# Altium footprint library ISO.PcbLib: 48 footprints (part 2 of 3)
Each footprint in its own frame and in the unit in brackets; x right, y up, seen from the top. Pads: shape width x height; smd on the part's side, far side on the other; paste and mask are expansions set on the pad; w line width, h text height; cw(c..) or ccw(c..) is an arc to the next point about the centre after c.
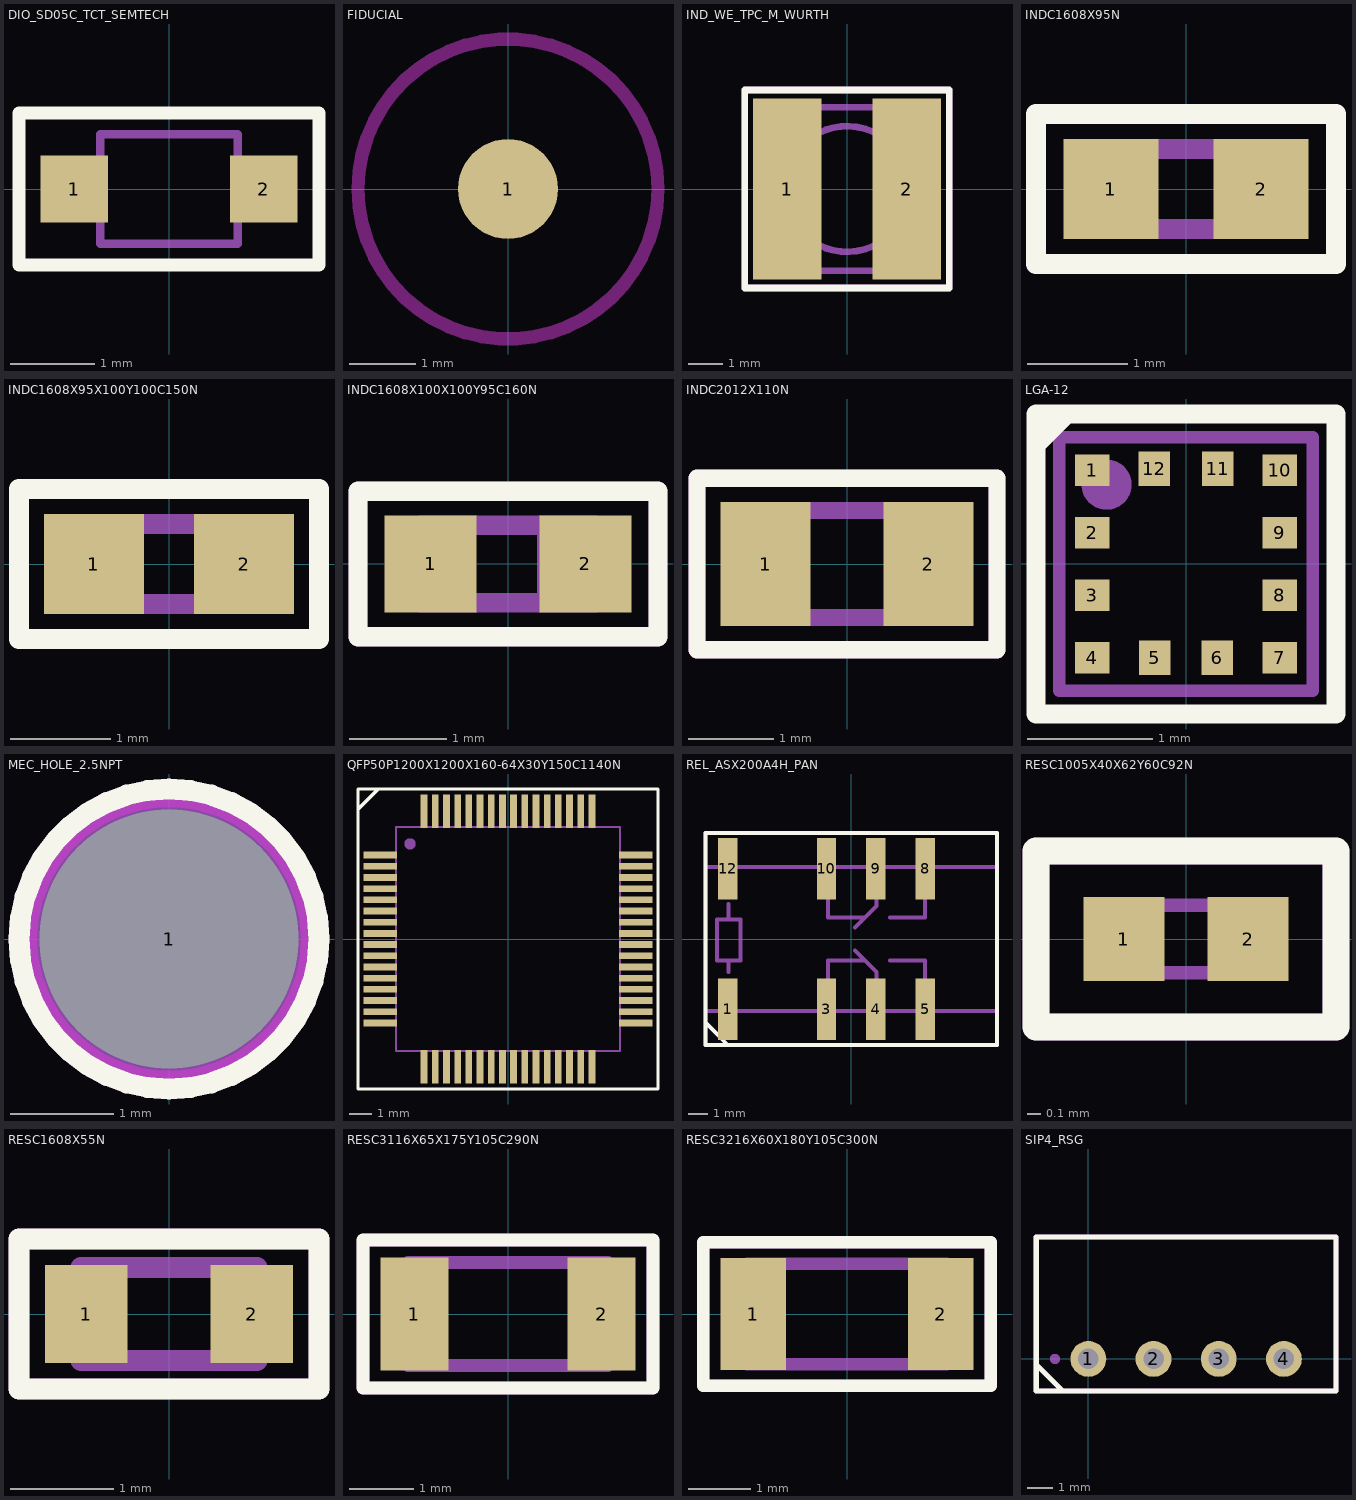
[diagram p1: the footprints below, top view; thin cyan lines are the x and y axes]

## DIO_SD05C_TCT_SEMTECH [mm] "Diode, Body; 1.8mm L(max) X 1.4mm(max) W X 1.1 mm (max) H"
height 1.1
pads (2):
  rect 0.8x0.8 smd: 1(-1.125,0) 2(1.125,0)
Top Overlay:
  lines w0.15: -1.778,-0.9 -1.778,0.9 1.778,0.9 1.778,-0.9 -1.778,-0.9
Mechanical 11:
  text ".Designator" at -0.813,-0.65 h1
Mechanical 13:
  lines w0.1: -0.813,-0.2 -1.35,-0.2 -1.35,0.2 -0.813,0.2 ; 0.813,-0.2 1.35,-0.2 1.35,0.2 0.813,0.2 ; -0.813,-0.65 -0.813,0.65 0.813,0.65 0.813,-0.65 -0.813,-0.65
Mechanical 15:
  lines w0.05: -1.775,-0.9 -1.775,0.9 1.775,0.9 1.775,-0.9 -1.775,-0.9
3D body: height 1.1, standoff 0, extent -1.774,-0.899 1.774,0.899

## FIDUCIAL [mm] "Standaard Fiducial 1.5mm"
height 0.1
pads (1):
  round 1.5 smd mask+1.125: 1(0,0)
Keep-Out Layer:
  circle w0.2: c0,0 r2.25
  circle w0.2: c0,0 r2.25

## IND_WE_TPC_M_WURTH [mm] "POWER-CHOKE WE-TPC-M"
height 4.5
pads (2):
  rect 2x5.3 smd paste+0: 1(-1.75,0) 2(1.75,0)
Top Overlay:
  lines w0.2: -3,-2.9 3,-2.9 3,2.9 -3,2.9 -3,-2.9
Mechanical 11:
  text ".Designator" at 4.75,2.25 h0.6
Mechanical 13:
  circle w0.4: c-1.7,1.65 r0.15
  circle w0.2: c0,0 r1.844
  lines w0.2: -2.4,-2.4 2.4,-2.4 2.4,2.4 -2.4,2.4 -2.4,-2.4
Mechanical 15:
  lines w0.2: -3,-2.9 3,-2.9 3,2.9 -3,2.9 -3,-2.9
3D body: height 4.5, standoff 0, extent -2.999,-2.899 2.999,2.899

## INDC1608X95N [mm] "Chip Inductor, 2-Leads, Body 1.6x0.8mm, IPC Medium Density"
height 0.95
pads (2):
  rect 0.95x1 smd: 1(-0.75,0) 2(0.75,0)
Top Overlay:
  lines w0.2: -1.5,-0.75 -1.5,0.75 1.5,0.75 1.5,-0.75 -1.5,-0.75
Mechanical 11:
  text ".designator" at -1.5,0.85 h0.6
Mechanical 13:
  lines w0.2: -0.45,-0.4 -0.45,0.4 ; 0.45,-0.4 0.45,0.4 ; -0.8,-0.4 -0.8,0.4 0.8,0.4 0.8,-0.4 -0.8,-0.4
Mechanical 15:
  lines w0.2: -1.5,-0.75 1.5,-0.75 1.5,0.75 -1.5,0.75 -1.5,-0.75
3D body: height 0.95, standoff 0, extent -1.499,-0.749 1.499,0.749

## INDC1608X95X100Y100C150N [mm] "Chip Inductor, 2-Leads, Body 1.6x0.8mm, IPC Medium Density"
height 0.95
pads (2):
  rect 1x1 smd: 1(-0.75,0) 2(0.75,0)
Top Overlay:
  lines w0.2: -1.5,-0.75 1.5,-0.75 1.5,0.75 -1.5,0.75 -1.5,-0.75
Mechanical 11:
  text ".Designator" at -1.475,1.05 h0.6
Mechanical 13:
  lines w0.2: -0.45,-0.4 -0.45,0.4 ; 0.45,-0.4 0.45,0.4 ; -0.8,-0.4 0.8,-0.4 0.8,0.4 -0.8,0.4 -0.8,-0.4
Mechanical 15:
  lines w0.2: -1.5,-0.75 -1.5,0.75 1.5,0.75 1.5,-0.75 -1.5,-0.75
3D body: height 0.95, standoff 0, extent -1.499,-0.749 1.499,0.749

## INDC1608X100X100Y95C160N [mm] "Chip Inductor, 2-Leads, Body 1.6x0.8mm, IPC Medium Density"
height 1
pads (2):
  rect 0.95x1 smd: 1(-0.8,0) 2(0.8,0)
Top Overlay:
  lines w0.2: -1.55,-0.75 -1.55,0.75 1.55,0.75 1.55,-0.75 -1.55,-0.75
Mechanical 11:
  text ".designator" at 3.25,0.25 h0.6
Mechanical 13:
  lines w0.2: -0.5,-0.4 -0.5,0.4 ; 0.4,-0.4 0.4,0.4 ; -0.9,-0.4 0.9,-0.4 0.9,0.4 -0.9,0.4 -0.9,-0.4
Mechanical 15:
  lines w0.2: -1.55,-0.75 1.55,-0.75 1.55,0.75 -1.55,0.75 -1.55,-0.75
3D body: height 1, standoff 0, extent -1.549,-0.749 1.549,0.749

## INDC2012X110N [mm] "Chip Inductor, 2-Leads, Body 2.0x1.3mm, IPC Medium Density"
height 1.1
pads (2):
  rect 1.05x1.45 smd: 1(-0.95,0) 2(0.95,0)
Top Overlay:
  lines w0.2: -1.75,-1 1.75,-1 1.75,1 -1.75,1 -1.75,-1
Mechanical 11:
  text ".designator" at -1.75,1.125 h0.6
Mechanical 13:
  circle w0.3: c-0.65,-0.2 r0.05
  lines w0.2: -1,-0.625 -1,0.625 1,0.625 1,-0.625 -1,-0.625
Mechanical 15:
  lines w0.2: -1.75,-1 -1.75,1 1.75,1 1.75,-1 -1.75,-1
3D body: height 1.1, standoff 0, extent -1.749,-0.999 1.749,0.999

## LGA-12 [mm] "BareBoard PCB"
pads (12):
  rect 0.275x0.25 smd: 1(-0.75,0.75) 2(-0.75,0.25) 3(-0.75,-0.25) 4(-0.75,-0.75) 7(0.75,-0.75) 8(0.75,-0.25) 9(0.75,0.25) 10(0.75,0.75)
  rect 0.25x0.275 smd: 5(-0.25,-0.75) 6(0.25,-0.75) 11(0.254,0.762) 12(-0.254,0.762)
Top Overlay:
  lines w0.15: -1.2,0.95 -0.95,1.2 ; -1.2,-1.2 1.2,-1.2 1.2,1.2 -1.2,1.2 -1.2,-1.2
Mechanical 11:
  text ".designator" at -0.85,-0.35 h0.8
Mechanical 13:
  circle w0.2: c-0.635,0.635 r0.1
  lines w0.1: -1.016,-1.016 1.016,-1.016 1.016,1.016 -1.016,1.016 -1.016,-1.016
Mechanical 15:
  lines w0.05: -1.2,-1.2 1.2,-1.2 1.2,1.2 -1.2,1.2 -1.2,-1.2

## MEC_HOLE_2.5NPT [mm] "Mechanical hole 2.5mmNPT"
height 0.1
pads (1):
  round 2.1 hole 2.5 unplated mask+0: 1(0,0)
Top Overlay:
  circle w0.2: c0,0 r1.45
Keep-Out Layer:
  circle w0.15: c0,0 r1.35
Mechanical 5:
  circle w0.1: c0,0 r1.25
Mechanical 13:
  circle w0.2: c0,0 r1.25
Mechanical 14:
  circle w0.2: c0,0 r1.35
Mechanical 15:
  circle w0.2: c0,0 r1.45
3D body: height 0.1, standoff 0, extent -1.449,-1.449 1.449,1.449

## QFP50P1200X1200X160-64X30Y150C1140N [mm] "TQFP, 64-Leads, Body 12 x 12 mm (max), Pitch 0.50mm, IPC Medium Density"
height 1.6
pads (64):
  rect 1.5x0.3 smd: 1(-5.7,3.75) 2(-5.7,3.25) 3(-5.7,2.75) 4(-5.7,2.25) 5(-5.7,1.75) 6(-5.7,1.25) 7(-5.7,0.75) 8(-5.7,0.25) 9(-5.7,-0.25) 10(-5.7,-0.75) 11(-5.7,-1.25) 12(-5.7,-1.75) 13(-5.7,-2.25) 14(-5.7,-2.75) 15(-5.7,-3.25) 16(-5.7,-3.75) 33(5.7,-3.75) 34(5.7,-3.25) 35(5.7,-2.75) 36(5.7,-2.25) 37(5.7,-1.75) 38(5.7,-1.25) 39(5.7,-0.75) 40(5.7,-0.25) 41(5.7,0.25) 42(5.7,0.75) 43(5.7,1.25) 44(5.7,1.75) 45(5.7,2.25) 46(5.7,2.75) 47(5.7,3.25) 48(5.7,3.75)
  rect 0.3x1.5 smd: 17(-3.75,-5.7) 18(-3.25,-5.7) 19(-2.75,-5.7) 20(-2.25,-5.7) 21(-1.75,-5.7) 22(-1.25,-5.7) 23(-0.75,-5.7) 24(-0.25,-5.7) 25(0.25,-5.7) 26(0.75,-5.7) 27(1.25,-5.7) 28(1.75,-5.7) 29(2.25,-5.7) 30(2.75,-5.7) 31(3.25,-5.7) 32(3.75,-5.7) 49(3.75,5.7) 50(3.25,5.7) 51(2.75,5.7) 52(2.25,5.7) 53(1.75,5.7) 54(1.25,5.7) 55(0.75,5.7) 56(0.25,5.7) 57(-0.25,5.7) 58(-0.75,5.7) 59(-1.25,5.7) 60(-1.75,5.7) 61(-2.25,5.7) 62(-2.75,5.7) 63(-3.25,5.7) 64(-3.75,5.7)
Top Overlay:
  lines w0.15: -6.7,5.5 -6.7,5.8 -5.8,6.7 ; -6.7,-6.7 -6.7,6.7 6.7,6.7 6.7,-6.7 -6.7,-6.7
Mechanical 11:
  text ".designator" at -1.475,-0.5 h0.6
Mechanical 13:
  circle w0.25: c-4.375,4.25 r0.125
  lines w0.1: -6.05,-3.75 -5.05,-3.75 ; -6,-3.75 -5,-3.75 ; -6,-3.25 -5,-3.25 ; -6,-2.75 -5,-2.75 ; -6,-2.25 -5,-2.25 ; -6,-1.75 -5,-1.75 ; -6,-1.25 -5,-1.25 ; -6,-0.75 -5,-0.75 ; -6,-0.25 -5,-0.25 ; -6,0.25 -5,0.25 ; -6,0.75 -5,0.75 ; -6,1.25 -5,1.25 ; -6,1.75 -5,1.75 ; -6,2.25 -5,2.25 ; -6,2.75 -5,2.75 ; -6,3.25 -5,3.25 ; -6,3.75 -5,3.75 ; -3.75,-6 -3.75,-5 ; -3.75,5 -3.75,6 ; -3.25,-6 -3.25,-5 ; -3.25,5 -3.25,6 ; -2.75,-6 -2.75,-5 ; -2.75,5 -2.75,6 ; -2.25,-6 -2.25,-5 ; -2.25,5 -2.25,6 ; -1.75,-6 -1.75,-5 ; -1.75,5 -1.75,6 ; -1.25,-6 -1.25,-5 ; -1.25,5 -1.25,6 ; -0.75,-6 -0.75,-5 ; -0.75,5 -0.75,6 ; -0.25,-6 -0.25,-5 ; -0.25,5 -0.25,6 ; 0.25,-6 0.25,-5 ; 0.25,5 0.25,6 ; 0.75,-6 0.75,-5 ; 0.75,5 0.75,6 ; 1.25,-6 1.25,-5 ; 1.25,5 1.25,6 ; 1.75,-6 1.75,-5 ; 1.75,5 1.75,6 ; 2.25,-6 2.25,-5 ; 2.25,5 2.25,6 ; 2.75,-6 2.75,-5 ; 2.75,5 2.75,6 ; 3.25,-6 3.25,-5 ; 3.25,5 3.25,6 ; 3.75,-6 3.75,-5 ; 3.75,5 3.75,6 ; 5,-3.75 6,-3.75 ; 5,-3.25 6,-3.25 ; 5,-2.75 6,-2.75 ; 5,-2.25 6,-2.25 ; 5,-1.75 6,-1.75 ; 5,-1.25 6,-1.25 ; 5,-0.25 6,-0.25 ; 5,0.25 6,0.25 ; 5,0.75 6,0.75 ; 5,1.25 6,1.25 ; 5,1.75 6,1.75 ; 5,2.75 6,2.75 ; 5,3.25 6,3.25 ; 5,3.75 6,3.75 ; 5.05,-0.75 6.05,-0.75 ; 5.05,2.25 6.05,2.25 ; -5,-5 -5,5 5,5 5,-5 -5,-5
Mechanical 15:
  lines w0.05: -6.7,6.699 -6.699,6.7 6.7,6.7 6.7,-6.7 -6.7,-6.7 -6.7,6.7
3D body: height 0.05, standoff 0, extent -6.7,-6.7 6.7,6.7
3D body "User Library-LQFP64-1.STEP": height 1.56, standoff 0, extent -6,-6 6,6

## REL_ASX200A4H_PAN [mm] "SX RELAYS (ASX) SURF MOUNTED"
height 8.2
pads (8):
  rect 1x3.16 smd: 1(-6.35,-3.62) 3(-1.27,-3.62) 4(1.27,-3.62) 5(3.81,-3.62) 8(3.81,3.62) 9(1.27,3.62) 10(-1.27,3.62) 12(-6.35,3.62)
Top Overlay:
  lines w0.2: -7.5,-4.3 -6.35,-5.45 ; -7.5,-5.45 7.5,-5.45 7.5,5.45 -7.5,5.45 -7.5,-5.45
Mechanical 11:
  text ".Designator" at -7.5,5.3 h0.6
Mechanical 13:
  lines w0.2: -6.6,-3.7 -6.6,-4.7 -6.1,-4.7 -6.1,-3.7 ; -6.6,3.7 -6.6,4.7 -6.1,4.7 -6.1,3.7 ; -6.3,-1.7 -6.3,-1.1 ; -6.3,1 -6.3,1.8 ; -5.7,-1 -5.7,-1.1 ; -1.52,-3.7 -1.52,-4.7 -1.02,-4.7 -1.02,-3.7 ; -1.52,3.7 -1.52,4.7 -1.02,4.7 -1.02,3.7 ; -1.2,-3.1 -1.2,-1.8 -1.2,-1.1 0.6,-1.1 ; -1.2,3.1 -1.2,1.8 -1.2,1.1 0.6,1.1 ; 0.2,-0.6 1.3,-1.7 1.3,-3.1 ; 0.2,0.6 1.3,1.7 1.3,3.1 ; 1.02,-3.7 1.02,-4.7 1.52,-4.7 1.52,-3.7 ; 1.02,3.7 1.02,4.7 1.52,4.7 1.52,3.7 ; 2,-1.1 3.8,-1.1 3.8,-1.8 3.8,-3.1 ; 2,1.1 3.8,1.1 3.8,1.8 3.8,3.1 ; 3.56,-3.7 3.56,-4.7 4.06,-4.7 4.06,-3.7 ; 3.56,3.7 3.56,4.7 4.06,4.7 4.06,3.7 ; -6.9,1 -6.9,1 ; -6.9,1 -5.7,1 -5.7,-1.1 ; -6.9,1 -6.9,-1.1 -5.7,-1.1 ; -7.5,-3.7 7.5,-3.7 7.5,3.7 -7.5,3.7 -7.5,-3.7
  text "+" at -6.7,-3.2 h1
Mechanical 15:
  lines w0.2: -7.5,-5.45 7.5,-5.45 7.5,5.45 -7.5,5.45 -7.5,-5.45
3D body: height 8.2, standoff 0, extent -7.499,-5.449 7.499,5.449

## RESC1005X40X62Y60C92N [mm] "Chip Resistor, 2-Leads, Body 1.1x0.5mm, IPC Medium Density"
height 0.4
pads (2):
  rect 0.6x0.62 smd: 1(-0.46,0) 2(0.46,0)
Top Overlay:
  lines w0.2: -1.11,-0.65 1.11,-0.65 1.11,0.65 -1.11,0.65 -1.11,-0.65
Mechanical 11:
  text ".Designator" at -0.9,0.7 h0.6
Mechanical 13:
  lines w0.1: -0.25,-0.25 -0.25,0.25 ; 0.25,-0.25 0.25,0.25 ; -0.5,-0.25 0.5,-0.25 0.5,0.25 -0.5,0.25 -0.5,-0.25
Mechanical 15:
  lines w0.2: -1.11,-0.65 1.11,-0.65 1.11,0.65 -1.11,0.65 -1.11,-0.65
3D body: height 0.4, standoff 0, extent -1.11,-0.65 1.11,0.65

## RESC1608X55N [mm] "Chip Resistor, Body 1.6x0.8mm, IPC Medium Density"
height 0.55
pads (2):
  rect 0.8x0.95 smd: 1(-0.8,0) 2(0.8,0)
Top Overlay:
  lines w0.2: -1.45,-0.725 1.45,-0.725 1.45,0.725 -1.45,0.725 -1.45,-0.725
Mechanical 11:
  text ".Designator" at -1.6,0.914 h0.6
Mechanical 13:
  lines w0.2: -0.6,-0.45 -0.6,0.45 ; 0.6,-0.45 0.6,0.45 ; -0.85,-0.45 -0.85,0.45 0.85,0.45 0.85,-0.45 -0.85,-0.45
Mechanical 15:
  lines w0.2: -1.45,-0.725 1.45,-0.725 1.45,0.725 -1.45,0.725 -1.45,-0.725
3D body: height 0.55, standoff 0, extent -1.449,-0.724 1.449,0.724

## RESC3116X65X175Y105C290N [mm] "Chip Resistor, 2-Leads, Body 3.1x1.6mm, IPC Medium Density"
height 0.65
pads (2):
  rect 1.05x1.75 smd: 1(-1.45,0) 2(1.45,0)
Top Overlay:
  lines w0.2: -2.25,-1.15 -2.25,1.15 2.25,1.15 2.25,-1.15 -2.25,-1.15
Mechanical 11:
  text ".Designator" at -2.337,1.346 h0.6
Mechanical 13:
  lines w0.2: -1.1,-0.8 -1.1,0.8 ; 1.1,-0.8 1.1,0.8 ; -1.55,-0.8 1.55,-0.8 1.55,0.8 -1.55,0.8 -1.55,-0.8
Mechanical 15:
  lines w0.2: -2.25,-1.15 2.25,-1.15 2.25,1.15 -2.25,1.15 -2.25,-1.15
3D body: height 0.65, standoff 0, extent -2.249,-1.149 2.249,1.149

## RESC3216X60X180Y105C300N [mm] "Chip Resistor, 2-Leads, Body 3.2x1.6mm, IPC Medium Density"
height 0.6
pads (2):
  rect 1.05x1.8 smd: 1(-1.5,0) 2(1.5,0)
Top Overlay:
  lines w0.2: -2.3,-1.15 2.3,-1.15 2.3,1.15 -2.3,1.15 -2.3,-1.15
Mechanical 11:
  text ".Designator" at -2.3,1.3 h0.6
Mechanical 13:
  lines w0.2: -1.1,-0.8 -1.1,0.8 ; 1.1,-0.8 1.1,0.7 ; -1.6,-0.8 -1.6,0.8 1.6,0.8 1.6,-0.8 -1.6,-0.8
Mechanical 15:
  lines w0.2: -2.3,-1.15 -2.3,1.15 2.3,1.15 2.3,-1.15 -2.3,-1.15
3D body: height 0.6, standoff 0, extent -2.299,-1.149 2.299,1.149

## SIP4_RSG [mm] "4 Pin SIL Package pitch 2.54mm"
height 10.15
pads (4):
  round 1.4 hole 0.8: 1(0,0) 2(2.54,0) 3(5.08,0) 4(7.62,0)
Top Overlay:
  lines w0.2: -2.04,-0.21 -1,-1.25 ; -2.03,-1.25 -2.03,4.75 9.65,4.75 9.65,-1.25 -2.03,-1.25
Mechanical 11:
  text ".Designator" at -2.03,4.75 h0.6
Mechanical 13:
  circle w0.3: c-1.3,0 r0.05
  lines w0.2: -2.03,-1.25 9.65,-1.25 9.65,4.75 -2.03,4.75 -2.03,-1.25
Mechanical 15:
  lines w0.2: -2.03,-1.25 -2.03,4.75 9.65,4.75 9.65,-1.25 -2.03,-1.25
3D body: height 10.15, standoff 0, extent -2.03,-1.25 9.65,4.75